# Altium schematic symbol library STM32F769NI.SchLib: 1 symbol
Pins are listed as number, name and electrical type; pins without a type are passive.

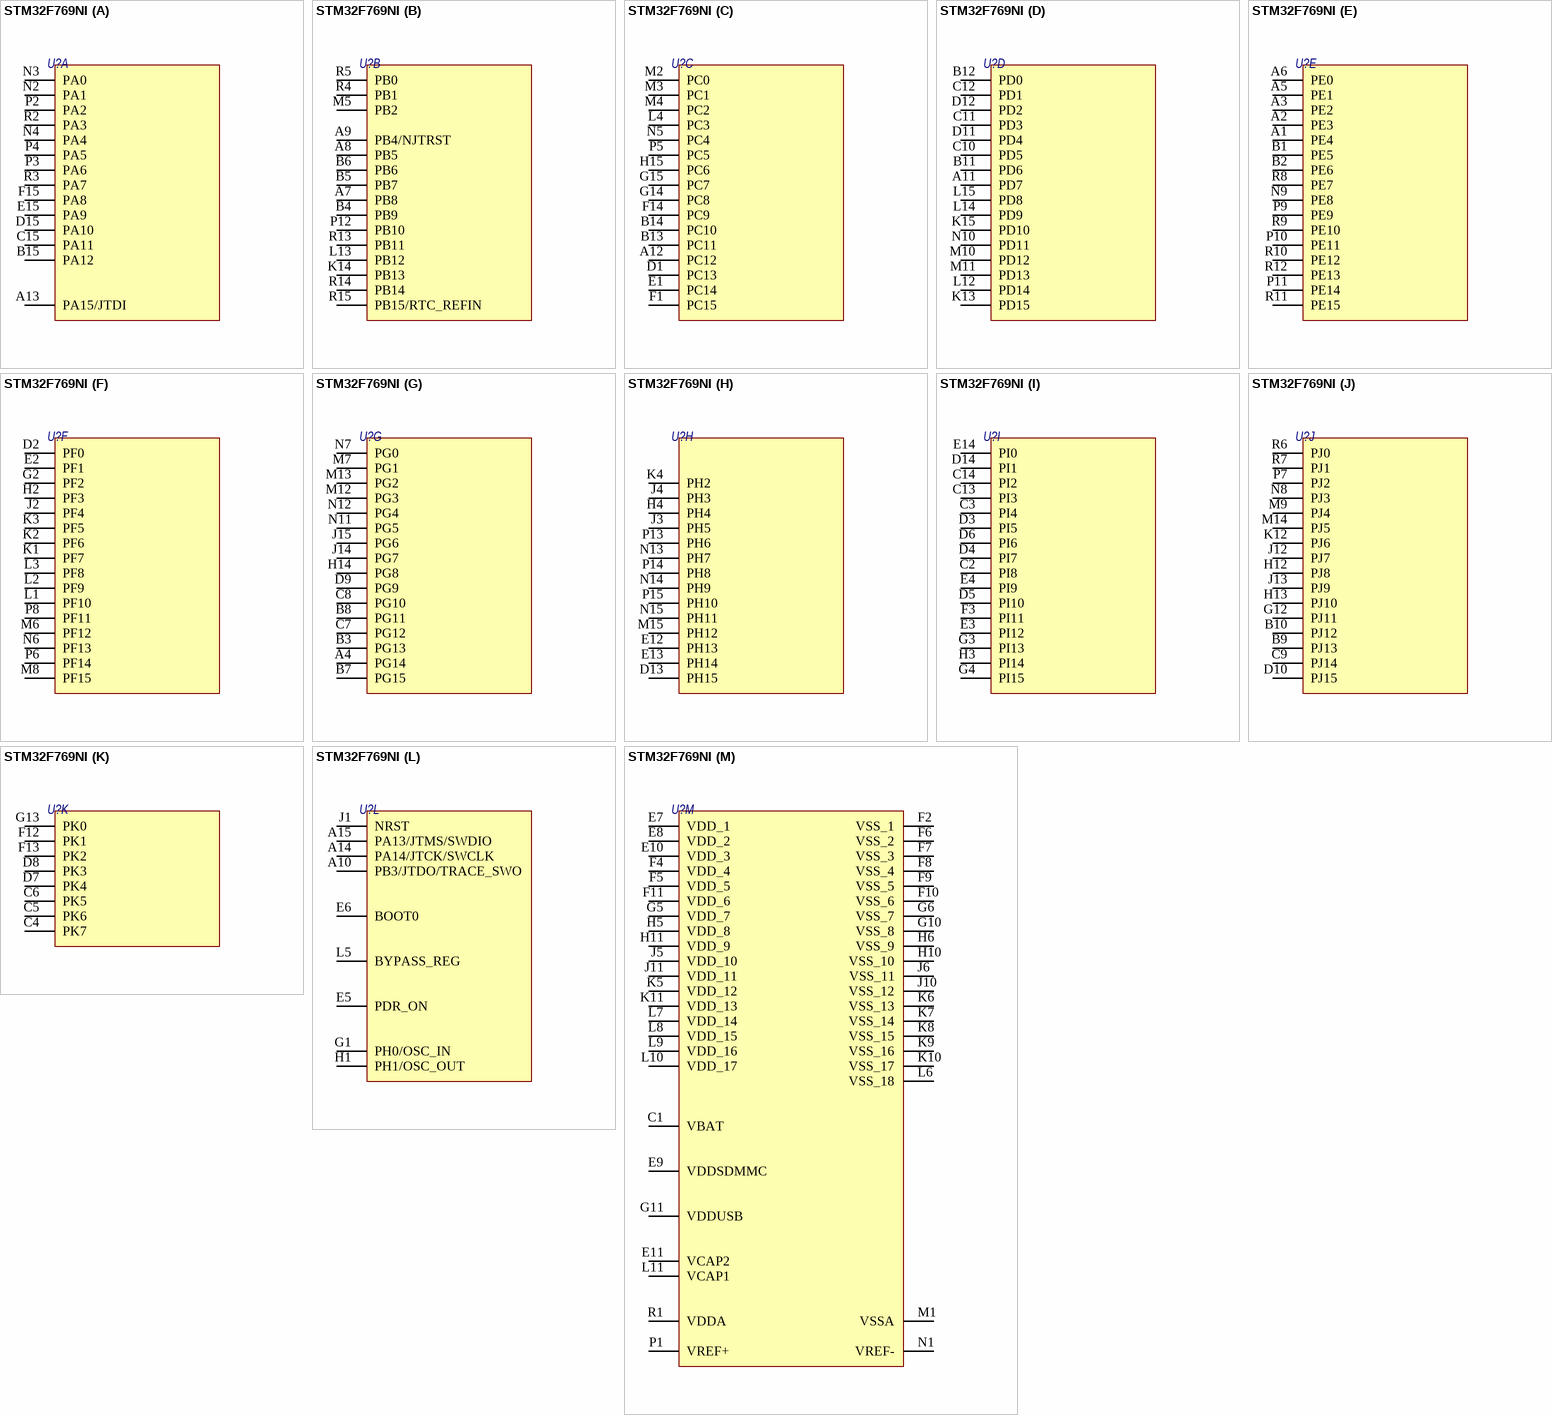
[diagram p0: symbol STM32F769NI]

## STM32F769NI
designator U?
High-performance and DSP with FPU, Arm Cortex-M7 MCU with 2 Mbytes of Flash memory, 216 MHz CPU, Art Accelerator, L1 cache, SDRAM, TFT, MIPI-DSI, JPEG codec, DFSDM; Потребление, Вт: 0.01; Назначение: Arm Cortex-M7 MCU; ComponentLink1Description: DataSheet; ComponentLink1URL: https://www.st.com/resource/en/datasheet/stm32f769ni.pdf; Наименование: STM32F769NI
footprint BGA216C80P15X15_1300X1300X110
part A pins: A13 PA15/JTDI, B15 PA12, C15 PA11, D15 PA10, E15 PA9, F15 PA8, N2 PA1, N3 PA0, N4 PA4, P2 PA2, P3 PA6, P4 PA5, R2 PA3, R3 PA7
part B pins: A7 PB8, A8 PB5, A9 PB4/NJTRST, B4 PB9, B5 PB7, B6 PB6, K14 PB13, L13 PB12, M5 PB2, P12 PB10, R4 PB1, R5 PB0, R13 PB11, R14 PB14, R15 PB15/RTC_REFIN
part C pins: A12 PC12, B13 PC11, B14 PC10, D1 PC13, E1 PC14, F1 PC15, F14 PC9, G14 PC8, G15 PC7, H15 PC6, L4 PC3, M2 PC0, M3 PC1, M4 PC2, N5 PC4, P5 PC5
part D pins: A11 PD7, B11 PD6, B12 PD0, C10 PD5, C11 PD3, C12 PD1, D11 PD4, D12 PD2, K13 PD15, K15 PD10, L12 PD14, L14 PD9, L15 PD8, M10 PD12, M11 PD13, N10 PD11
part E pins: A1 PE4, A2 PE3, A3 PE2, A5 PE1, A6 PE0, B1 PE5, B2 PE6, N9 PE8, P9 PE9, P10 PE11, P11 PE14, R8 PE7, R9 PE10, R10 PE12, R11 PE15, R12 PE13
part F pins: D2 PF0, E2 PF1, G2 PF2, H2 PF3, J2 PF4, K1 PF7, K2 PF6, K3 PF5, L1 PF10, L2 PF9, L3 PF8, M6 PF12, M8 PF15, N6 PF13, P6 PF14, P8 PF11
part G pins: A4 PG14, B3 PG13, B7 PG15, B8 PG11, C7 PG12, C8 PG10, D9 PG9, H14 PG8, J14 PG7, J15 PG6, M7 PG1, M12 PG3, M13 PG2, N7 PG0, N11 PG5, N12 PG4
part H pins: D13 PH15, E12 PH13, E13 PH14, H4 PH4, J3 PH5, J4 PH3, K4 PH2, M15 PH12, N13 PH7, N14 PH9, N15 PH11, P13 PH6, P14 PH8, P15 PH10
part I pins: C2 PI8, C3 PI4, C13 PI3, C14 PI2, D3 PI5, D4 PI7, D5 PI10, D6 PI6, D14 PI1, E3 PI12, E4 PI9, E14 PI0, F3 PI11, G3 PI13, G4 PI15, H3 PI14
part J pins: B9 PJ13, B10 PJ12, C9 PJ14, D10 PJ15, G12 PJ11, H12 PJ8, H13 PJ10, J12 PJ7, J13 PJ9, K12 PJ6, M9 PJ4, M14 PJ5, N8 PJ3, P7 PJ2, R6 PJ0, R7 PJ1
part K pins: C4 PK7, C5 PK6, C6 PK5, D7 PK4, D8 PK3, F12 PK1, F13 PK2, G13 PK0
part L pins: A10 PB3/JTDO/TRACE_SWO, A14 PA14/JTCK/SWCLK, A15 PA13/JTMS/SWDIO, E5 PDR_ON, E6 BOOT0, G1 PH0/OSC_IN, H1 PH1/OSC_OUT, J1 NRST, L5 BYPASS_REG
part M pins: C1 VBAT, E7 VDD_1, E8 VDD_2, E9 VDDSDMMC, E10 VDD_3, E11 VCAP2, F2 VSS_1, F4 VDD_4, F5 VDD_5, F6 VSS_2, F7 VSS_3, F8 VSS_4, F9 VSS_5, F10 VSS_6, F11 VDD_6, G5 VDD_7, G6 VSS_7, G10 VSS_8, G11 VDDUSB, H5 VDD_8, H6 VSS_9, H10 VSS_10, H11 VDD_9, J5 VDD_10, J6 VSS_11, J10 VSS_12, J11 VDD_11, K5 VDD_12, K6 VSS_13, K7 VSS_14, K8 VSS_15, K9 VSS_16, K10 VSS_17, K11 VDD_13, L6 VSS_18, L7 VDD_14, L8 VDD_15, L9 VDD_16, L10 VDD_17, L11 VCAP1, M1 VSSA, N1 VREF-, P1 VREF+, R1 VDDA